# EAGLE library part LSM330DLC (library sensors)
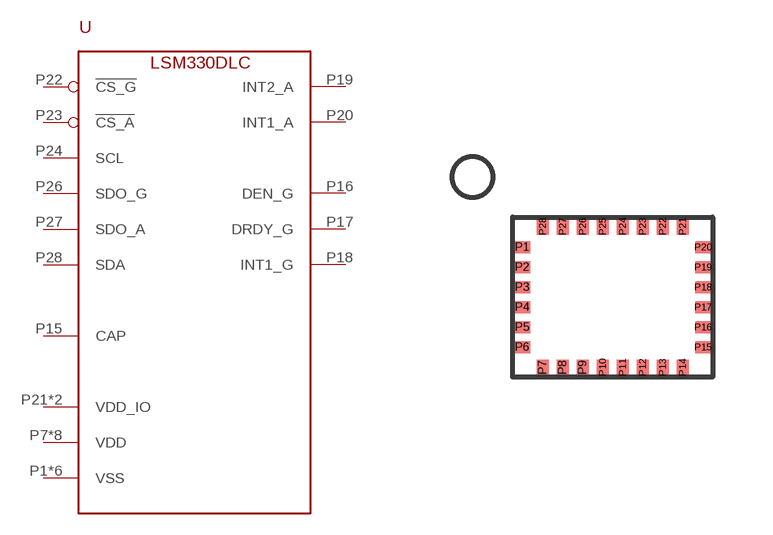
[diagram p1: symbol with the pads of LGA_4X5X1P1_28L; footprint LGA_4X5X1P1_28L]

Designator prefix -

## LSM330DLC  [LGA_4X5X1P1_28L]
P1  VSS  pwr
P2  VSS  pwr
P3  VSS  pwr
P4  VSS  pwr
P5  VSS  pwr
P6  VSS  pwr
P7  VDD  pwr
P8  VDD  pwr
P9  VDD  pwr
P10  VDD  pwr
P11  VDD  pwr
P12  VDD  pwr
P13  VDD  pwr
P14  VDD  pwr
P15  CAP  pwr
P16  DEN_G  in
P17  DRDY_G  out
P18  INT1_G  out
P19  INT2_A  out
P20  INT1_A  out
P21  VDD_IO  pwr
P22  !CS_G  in
P23  !CS_A  in
P24  SCL  in
P25  VDD_IO  pwr
P26  SDO_G  out
P27  SDO_A  out
P28  SDA  in

## Footprint LGA_4X5X1P1_28L (pad centres in mm)
smd 0.4 x 0.3: P1 -2.263,1.25; P2 -2.263,0.75; P3 -2.263,0.25; P4 -2.263,-0.25; P5 -2.263,-0.75; P6 -2.263,-1.25; P15 2.263,-1.25; P16 2.263,-0.75; P17 2.263,-0.25; P18 2.263,0.25; P19 2.263,0.75; P20 2.263,1.25
smd 0.3 x 0.4: P7 -1.75,-1.762; P8 -1.25,-1.762; P9 -0.75,-1.762; P10 -0.25,-1.762; P11 0.25,-1.762; P12 0.75,-1.762; P13 1.25,-1.762; P14 1.75,-1.762; P21 1.75,1.762; P22 1.25,1.762; P23 0.75,1.762; P24 0.25,1.762; P25 -0.25,1.762; P26 -0.75,1.762; P27 -1.25,1.762; P28 -1.75,1.762